# EAGLE library part TOM-1588BH (library densikit)
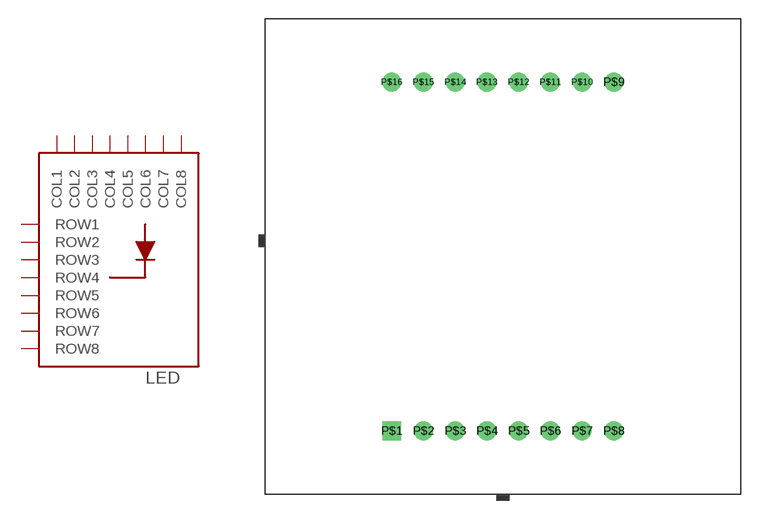
[diagram p4: symbol with the pads of TOM-1588BH; footprint TOM-1588BH]

Designator prefix LED

## TOM-1588BH  [TOM-1588BH]
P$1  ROW5
P$2  ROW7
P$3  COL2
P$4  COL3
P$5  ROW8
P$6  COL5
P$7  ROW6
P$8  ROW3
P$9  ROW1
P$10  COL4
P$11  COL6
P$12  ROW4
P$13  COL1
P$14  ROW2
P$15  COL7
P$16  COL8

## Footprint TOM-1588BH (pad centres in mm)
drill 1 square: P$1 10.16,5.08
drill 1: P$2 12.7,5.08; P$3 15.24,5.08; P$4 17.78,5.08; P$5 20.32,5.08; P$6 22.86,5.08; P$7 25.4,5.08; P$8 27.94,5.08; P$9 27.94,33.02; P$10 25.4,33.02; P$11 22.86,33.02; P$12 20.32,33.02; P$13 17.78,33.02; P$14 15.24,33.02; P$15 12.7,33.02; P$16 10.16,33.02